# Altium schematic symbol library LM809M3-4.63-NOPB.SchLib: 1 symbol
Pins are listed as number, name and electrical type; pins without a type are passive.

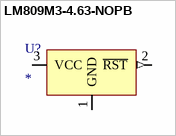
[diagram p0: symbol LM809M3-4.63-NOPB]

## LM809M3-4.63-NOPB
designator U?
Value: *
pins: 1 GND, 2 ~{RST} (out), 3 VCC (power)